# EAGLE library part BA5412 (library ic)
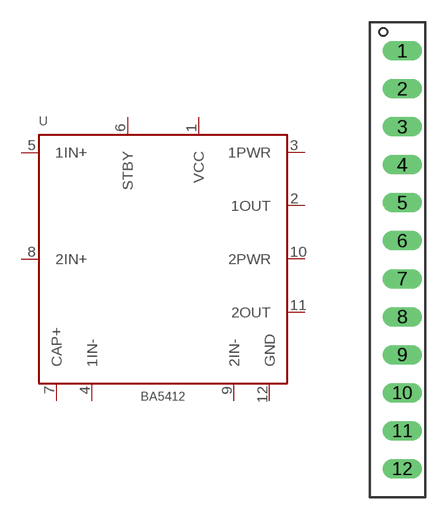
[diagram p20: symbol with the pads of SIP12; footprint SIP12]

Designator prefix -

## BA5412  [SIP12]
1  VCC
2  1OUT
3  1PWR
4  1IN-
5  1IN+
6  STBY
7  CAP+
8  2IN+
9  2IN-
10  2PWR
11  2OUT
12  GND

## Footprint SIP12 (pad centres in mm)
drill 0.8 long: 1 0,13.97; 2 0,11.43; 3 0,8.89; 4 0,6.35; 5 0,3.81; 6 0,1.27; 7 0,-1.27; 8 0,-3.81; 9 0,-6.35; 10 0,-8.89; 11 0,-11.43; 12 0,-13.97